# EAGLE library part MCP1252-33X50 (library microchip-MCP125x)
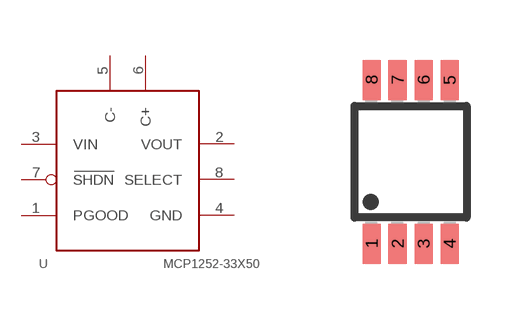
[diagram p2: symbol with the pads of MSOP8; footprint MSOP8]

Designator prefix -

## MCP1252-33X50  [MSOP8]
1  PGOOD  out
2  VOUT  out
3  VIN  pwr
4  GND  pwr
5  C-
6  C+
7  SHDN  in
8  SELECT  in

## Footprint MSOP8 (pad centres in mm)
Micro Small Outline Package Grid .65mm
smd 0.45 x 1: 1 -0.975,-2.05; 2 -0.325,-2.05; 3 0.325,-2.05; 4 0.975,-2.05; 5 0.975,2.05; 6 0.325,2.05; 7 -0.325,2.05; 8 -0.975,2.05